# EAGLE library part CTS767 (library easyset)
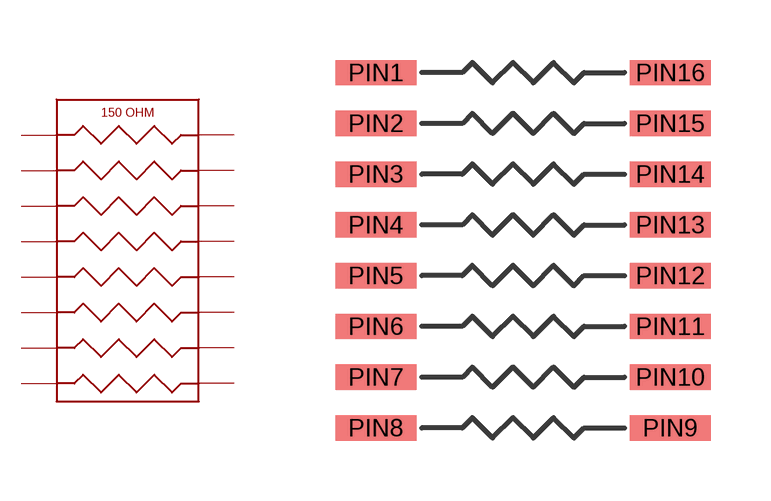
[diagram p2: symbol with the pads of SOGN-0001; footprint SOGN-0001]

Designator prefix -

## CTS767  [SOGN-0001]
PIN1  R1A
PIN2  R2A
PIN3  R3A
PIN4  R4A
PIN5  R5A
PIN6  R6A
PIN7  R7A
PIN8  R8A
PIN9  R8B
PIN10  R7B
PIN11  R6B
PIN12  R5B
PIN13  R4B
PIN14  R3B
PIN15  R2B
PIN16  R1B

## Footprint SOGN-0001 (pad centres in mm)
smd 2.032 x 0.635: PIN1 -3.683,4.445; PIN2 -3.683,3.175; PIN3 -3.683,1.905; PIN4 -3.683,0.635; PIN5 -3.683,-0.635; PIN6 -3.683,-1.905; PIN7 -3.683,-3.175; PIN8 -3.683,-4.445; PIN9 3.683,-4.445; PIN10 3.683,-3.175; PIN11 3.683,-1.905; PIN12 3.683,-0.635; PIN13 3.683,0.635; PIN14 3.683,1.905; PIN15 3.683,3.175; PIN16 3.683,4.445